# Altium schematic symbol library RC0603JR-07150RL.SchLib: 1 symbol
Pins are listed as number, name and electrical type; pins without a type are passive.

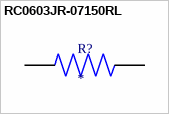
[diagram p0: symbol RC0603JR-07150RL]

## RC0603JR-07150RL
designator R?
Resistor: thick film; SMD; 0603; 150Î©; 0.1W; Â±5%; -55Ã·155Â°C; MP: RC0603JR-07150RL; Package: None; Price: None; Value: *; Availability: Unavailable
pins: 1, 2